# EAGLE library part AD620_MODULE (library !Redox)
AD620 Instumentation Amplifier Module (breakout board)
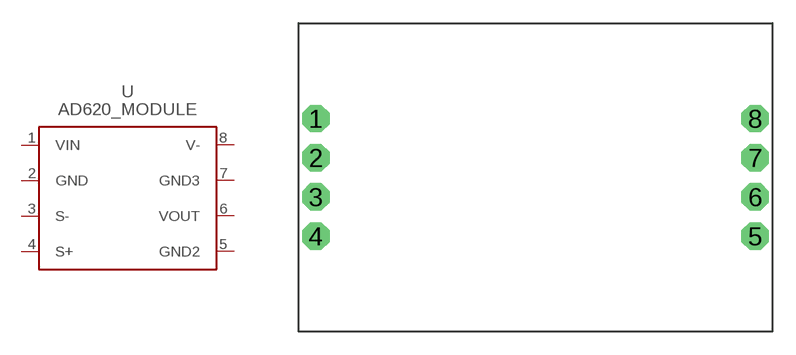
[diagram p0: symbol with the pads of AD620_MODULE; footprint AD620_MODULE]

Designator prefix U

## AD620_MODULE  [AD620_MODULE]
1  VIN
2  GND
3  S-
4  S+
5  GND2
6  VOUT
7  GND3
8  V-

## Footprint AD620_MODULE (pad centres in mm)
drill 1 pad 1.778 octagon: 1 -15.24,3.81; 2 -15.24,1.27; 3 -15.24,-1.27; 4 -15.24,-3.81; 5 13.208,-3.81; 6 13.208,-1.27; 7 13.208,1.27; 8 13.208,3.81